# Altium integrated library Renesas Logic.IntLib: 1013 symbols (part 4 of 27)
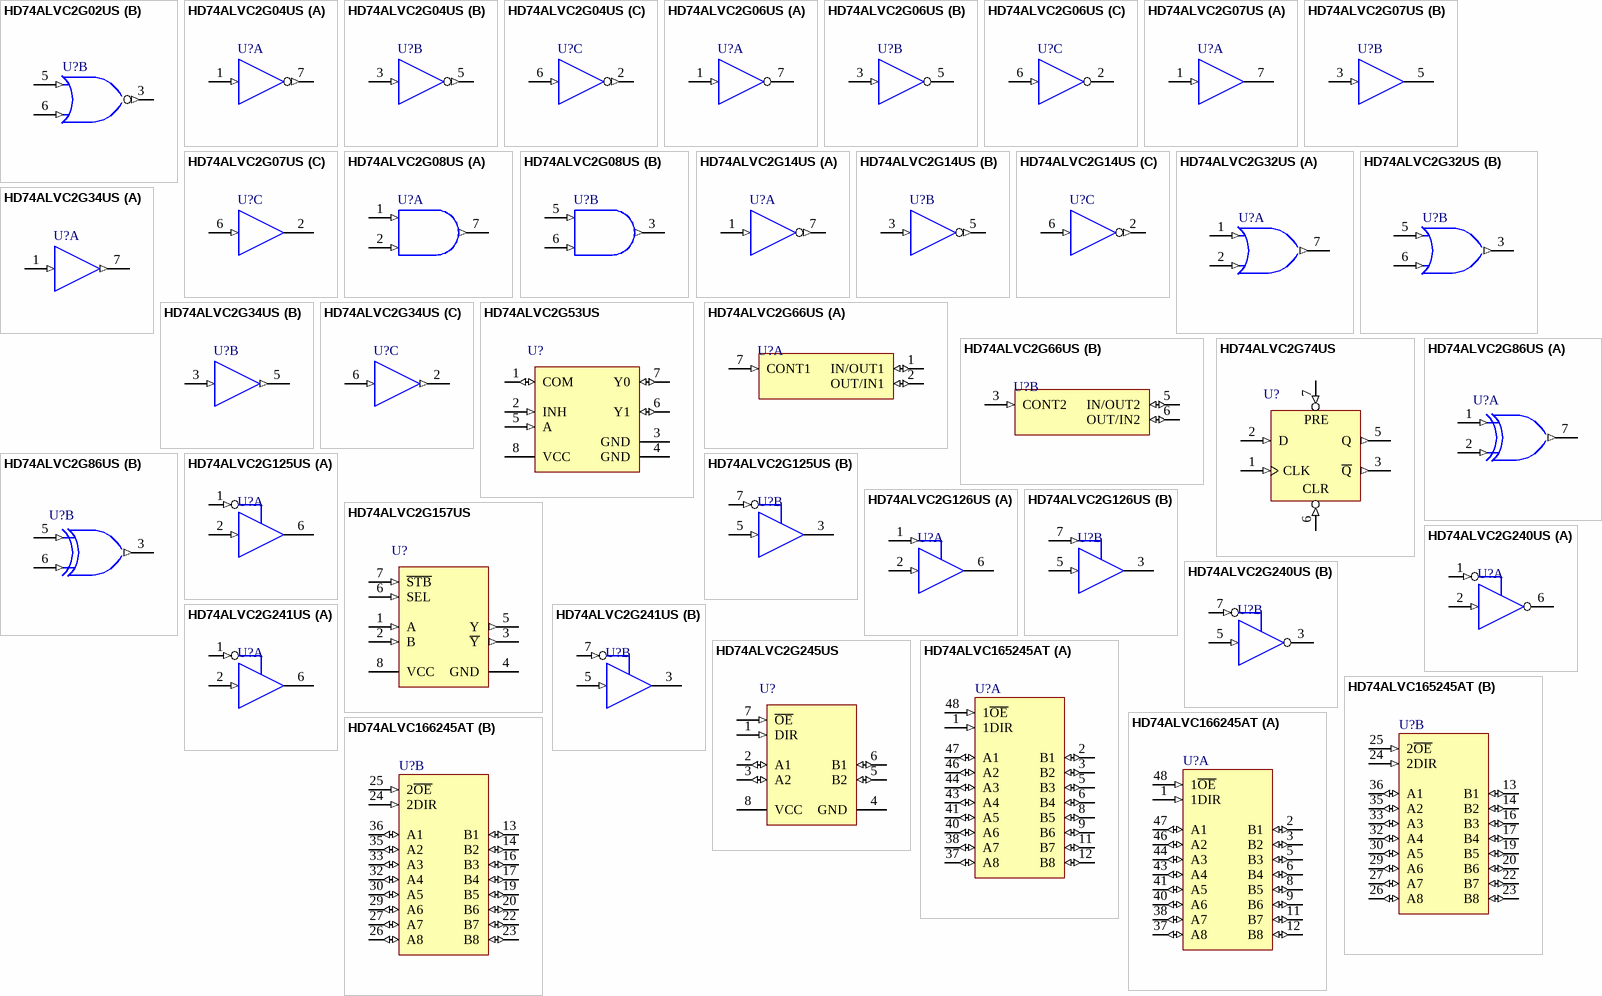
[diagram p56: symbols HD74ALVC2G02US to HD74ALVC166245AT]

## HD74ALVC2G74US
designator U?
Single D-Type Flip Flops with Preset and Clear; Published: 10-Feb-2010; DatasheetVersion: Rev.3.00, Dec-2003; PackageVersion: Sep-2005; PackageReference: PVSP0008KA-A; Publisher: Altium Limited; PackageDescription: 8-Pin Plastic Thin Shrink Small Outline Package 0.5 mm Pitch; Code_JEITA: P-VSSOP8-2.3x2-0.50; ComponentLink1Description: Manufacturer Link; ComponentLink1URL: http://sg.renesas.com/fmwk.jsp?cnt=unilogic_alvc_root.jsp&fp=/products/standard_ic/general_purpose_logic/uni_logic/unilogic_alvc/; ComponentLink2Description: Datasheet; ComponentLink2URL: http://documentation.renesas.com/eng/products/logic/rej03d0169_hd74alvc2g74.pdf; ComponentLink3Description: Packaging Specification; ComponentLink3URL: http://sg.renesas.com/media/products/common_info/package/pdf/ic/code/pvsp0008ka_a.pdf
footprint PVSP0008KA-A_N (TSSOP, 8-Leads, Body 2x2.3mm, Pitch 0.5mm, IPC Medium Density)
footprint PVSP0008KA-A_L (TSSOP, 8-Leads, Body 2x2.3mm, Pitch 0.5mm, IPC High Density)
footprint PVSP0008KA-A_M (TSSOP, 8-Leads, Body 2x2.3mm, Pitch 0.5mm, IPC Low Density)
pins: 1 CLK (in), 2 D (in), 3 ~{Q} (out), 4 GND (power) hidden, 5 Q (out), 6 ~{CLR} (in), 7 ~{PRE} (in), 8 VCC (power) hidden
text: PRE; CLR

## HD74ALVC2G86US
designator U?
Dual 2-Input Exclusive-OR Gates; Published: 10-Feb-2010; DatasheetVersion: Rev.3.00, Dec-2003; PackageVersion: Sep-2005; PackageReference: PVSP0008KA-A; Publisher: Altium Limited; PackageDescription: 8-Pin Plastic Thin Shrink Small Outline Package 0.5 mm Pitch; Code_JEITA: P-VSSOP8-2.3x2-0.50; ComponentLink1Description: Manufacturer Link; ComponentLink1URL: http://sg.renesas.com/fmwk.jsp?cnt=unilogic_alvc_root.jsp&fp=/products/standard_ic/general_purpose_logic/uni_logic/unilogic_alvc/; ComponentLink2Description: Datasheet; ComponentLink2URL: http://documentation.renesas.com/eng/products/logic/rej03d0170_hd74alvc2g86.pdf; ComponentLink3Description: Packaging Specification; ComponentLink3URL: http://sg.renesas.com/media/products/common_info/package/pdf/ic/code/pvsp0008ka_a.pdf
footprint PVSP0008KA-A_N (TSSOP, 8-Leads, Body 2x2.3mm, Pitch 0.5mm, IPC Medium Density)
footprint PVSP0008KA-A_L (TSSOP, 8-Leads, Body 2x2.3mm, Pitch 0.5mm, IPC High Density)
footprint PVSP0008KA-A_M (TSSOP, 8-Leads, Body 2x2.3mm, Pitch 0.5mm, IPC Low Density)
pins on every part: 4 GND (power) hidden, 8 VCC (power) hidden
part A pins: 1 1A (in), 2 1B (in), 7 1Y (out)
part B pins: 3 2Y (out), 5 2A (in), 6 2B (in)

## HD74ALVC2G125US
designator U?
Dual Bus Buffer with 3-State Output; Published: 10-Feb-2010; DatasheetVersion: Rev.2.00, Dec-2003; PackageVersion: Sep-2005; PackageReference: PVSP0008KA-A; Publisher: Altium Limited; PackageDescription: 8-Pin Plastic Thin Shrink Small Outline Package 0.5 mm Pitch; Code_JEITA: P-VSSOP8-2.3x2-0.50; ComponentLink1Description: Manufacturer Link; ComponentLink1URL: http://sg.renesas.com/fmwk.jsp?cnt=unilogic_alvc_root.jsp&fp=/products/standard_ic/general_purpose_logic/uni_logic/unilogic_alvc/; ComponentLink2Description: Datasheet; ComponentLink2URL: http://documentation.renesas.com/eng/products/logic/rej03d0171_hd74alvc2g125.pdf; ComponentLink3Description: Packaging Specification; ComponentLink3URL: http://sg.renesas.com/media/products/common_info/package/pdf/ic/code/pvsp0008ka_a.pdf
footprint PVSP0008KA-A_N (TSSOP, 8-Leads, Body 2x2.3mm, Pitch 0.5mm, IPC Medium Density)
footprint PVSP0008KA-A_L (TSSOP, 8-Leads, Body 2x2.3mm, Pitch 0.5mm, IPC High Density)
footprint PVSP0008KA-A_M (TSSOP, 8-Leads, Body 2x2.3mm, Pitch 0.5mm, IPC Low Density)
pins on every part: 4 GND (power) hidden, 8 VCC (power) hidden
part A pins: 1 ~{OE}1 (in), 2 A1 (in), 6 Y1 (hiz)
part B pins: 3 Y2 (hiz), 5 A2 (in), 7 ~{OE}2 (in)

## HD74ALVC2G126US
designator U?
Dual Bus Buffer with 3-State Output; Published: 10-Feb-2010; DatasheetVersion: Rev.2.00, Dec-2003; PackageVersion: Sep-2005; PackageReference: PVSP0008KA-A; Publisher: Altium Limited; PackageDescription: 8-Pin Plastic Thin Shrink Small Outline Package 0.5 mm Pitch; Code_JEITA: P-VSSOP8-2.3x2-0.50; ComponentLink1Description: Manufacturer Link; ComponentLink1URL: http://sg.renesas.com/fmwk.jsp?cnt=unilogic_alvc_root.jsp&fp=/products/standard_ic/general_purpose_logic/uni_logic/unilogic_alvc/; ComponentLink2Description: Datasheet; ComponentLink2URL: http://documentation.renesas.com/eng/products/logic/rej03d0172_hd74alvc2g126.pdf; ComponentLink3Description: Packaging Specification; ComponentLink3URL: http://sg.renesas.com/media/products/common_info/package/pdf/ic/code/pvsp0008ka_a.pdf
footprint PVSP0008KA-A_N (TSSOP, 8-Leads, Body 2x2.3mm, Pitch 0.5mm, IPC Medium Density)
footprint PVSP0008KA-A_L (TSSOP, 8-Leads, Body 2x2.3mm, Pitch 0.5mm, IPC High Density)
footprint PVSP0008KA-A_M (TSSOP, 8-Leads, Body 2x2.3mm, Pitch 0.5mm, IPC Low Density)
pins on every part: 4 GND (power) hidden, 8 VCC (power) hidden
part A pins: 1 OE1 (in), 2 A1 (in), 6 Y1 (hiz)
part B pins: 3 Y2 (hiz), 5 A2 (in), 7 OE2 (in)

## HD74ALVC2G157US
designator U?
2-Channel Multiplexer; Published: 10-Feb-2010; DatasheetVersion: Rev.4.00, Dec-2003; PackageVersion: Sep-2005; PackageReference: PVSP0008KA-A; Publisher: Altium Limited; PackageDescription: 8-Pin Plastic Thin Shrink Small Outline Package 0.5 mm Pitch; Code_JEITA: P-VSSOP8-2.3x2-0.50; ComponentLink1Description: Manufacturer Link; ComponentLink1URL: http://sg.renesas.com/fmwk.jsp?cnt=unilogic_alvc_root.jsp&fp=/products/standard_ic/general_purpose_logic/uni_logic/unilogic_alvc/; ComponentLink2Description: Datasheet; ComponentLink2URL: http://documentation.renesas.com/eng/products/logic/rej03d0173_hd74alvc2g157.pdf; ComponentLink3Description: Packaging Specification; ComponentLink3URL: http://sg.renesas.com/media/products/common_info/package/pdf/ic/code/pvsp0008ka_a.pdf
footprint PVSP0008KA-A_N (TSSOP, 8-Leads, Body 2x2.3mm, Pitch 0.5mm, IPC Medium Density)
footprint PVSP0008KA-A_L (TSSOP, 8-Leads, Body 2x2.3mm, Pitch 0.5mm, IPC High Density)
footprint PVSP0008KA-A_M (TSSOP, 8-Leads, Body 2x2.3mm, Pitch 0.5mm, IPC Low Density)
pins: 1 A (in), 2 B (in), 3 ~{Y} (out), 4 GND (power), 5 Y (out), 6 SEL (in), 7 ~{STB} (in), 8 VCC (power)

## HD74ALVC2G240US
designator U?
Dual Bus Buffer Inverted with 3-State Output; Published: 10-Feb-2010; DatasheetVersion: Rev.3.00, Dec-2003; PackageVersion: Sep-2005; PackageReference: PVSP0008KA-A; Publisher: Altium Limited; PackageDescription: 8-Pin Plastic Thin Shrink Small Outline Package 0.5 mm Pitch; Code_JEITA: P-VSSOP8-2.3x2-0.50; ComponentLink1Description: Manufacturer Link; ComponentLink1URL: http://sg.renesas.com/fmwk.jsp?cnt=unilogic_alvc_root.jsp&fp=/products/standard_ic/general_purpose_logic/uni_logic/unilogic_alvc/; ComponentLink2Description: Datasheet; ComponentLink2URL: http://documentation.renesas.com/eng/products/logic/rej03d0174_hd74alvc2g240.pdf; ComponentLink3Description: Packaging Specification; ComponentLink3URL: http://sg.renesas.com/media/products/common_info/package/pdf/ic/code/pvsp0008ka_a.pdf
footprint PVSP0008KA-A_N (TSSOP, 8-Leads, Body 2x2.3mm, Pitch 0.5mm, IPC Medium Density)
footprint PVSP0008KA-A_L (TSSOP, 8-Leads, Body 2x2.3mm, Pitch 0.5mm, IPC High Density)
footprint PVSP0008KA-A_M (TSSOP, 8-Leads, Body 2x2.3mm, Pitch 0.5mm, IPC Low Density)
pins on every part: 4 GND (power) hidden, 8 VCC (power) hidden
part A pins: 1 ~{OE}1 (in), 2 A1 (in), 6 ~{Y}1 (hiz)
part B pins: 3 ~{Y}2 (hiz), 5 A2 (in), 7 ~{OE}2 (in)

## HD74ALVC2G241US
designator U?
Dual Bus Buffer Non-Inverted with 3-State Output; Published: 10-Feb-2010; DatasheetVersion: Rev.2.00, Dec-2003; PackageVersion: Sep-2005; PackageReference: PVSP0008KA-A; Publisher: Altium Limited; PackageDescription: 8-Pin Plastic Thin Shrink Small Outline Package 0.5 mm Pitch; Code_JEITA: P-VSSOP8-2.3x2-0.50; ComponentLink1Description: Manufacturer Link; ComponentLink1URL: http://sg.renesas.com/fmwk.jsp?cnt=unilogic_alvc_root.jsp&fp=/products/standard_ic/general_purpose_logic/uni_logic/unilogic_alvc/; ComponentLink2Description: Datasheet; ComponentLink2URL: http://documentation.renesas.com/eng/products/logic/rej03d0175_hd74alvc2g241.pdf; ComponentLink3Description: Packaging Specification; ComponentLink3URL: http://sg.renesas.com/media/products/common_info/package/pdf/ic/code/pvsp0008ka_a.pdf
footprint PVSP0008KA-A_N (TSSOP, 8-Leads, Body 2x2.3mm, Pitch 0.5mm, IPC Medium Density)
footprint PVSP0008KA-A_L (TSSOP, 8-Leads, Body 2x2.3mm, Pitch 0.5mm, IPC High Density)
footprint PVSP0008KA-A_M (TSSOP, 8-Leads, Body 2x2.3mm, Pitch 0.5mm, IPC Low Density)
pins on every part: 4 GND (power) hidden, 8 VCC (power) hidden
part A pins: 1 ~{OE}1 (in), 2 A1 (in), 6 Y1 (hiz)
part B pins: 3 Y2 (hiz), 5 A2 (in), 7 ~{OE}2 (in)

## HD74ALVC2G245US
designator U?
Dual Bus Transceivers with 3-State Output; Published: 10-Feb-2010; DatasheetVersion: Rev.4.00, Dec-2003; PackageVersion: Sep-2005; PackageReference: PVSP0008KA-A; Publisher: Altium Limited; PackageDescription: 8-Pin Plastic Thin Shrink Small Outline Package 0.5 mm Pitch; Code_JEITA: P-VSSOP8-2.3x2-0.50; ComponentLink1Description: Manufacturer Link; ComponentLink1URL: http://sg.renesas.com/fmwk.jsp?cnt=unilogic_alvc_root.jsp&fp=/products/standard_ic/general_purpose_logic/uni_logic/unilogic_alvc/; ComponentLink2Description: Datasheet; ComponentLink2URL: http://documentation.renesas.com/eng/products/logic/rej03d0176_hd74alvc2g245.pdf; ComponentLink3Description: Packaging Specification; ComponentLink3URL: http://sg.renesas.com/media/products/common_info/package/pdf/ic/code/pvsp0008ka_a.pdf
footprint PVSP0008KA-A_N (TSSOP, 8-Leads, Body 2x2.3mm, Pitch 0.5mm, IPC Medium Density)
footprint PVSP0008KA-A_L (TSSOP, 8-Leads, Body 2x2.3mm, Pitch 0.5mm, IPC High Density)
footprint PVSP0008KA-A_M (TSSOP, 8-Leads, Body 2x2.3mm, Pitch 0.5mm, IPC Low Density)
pins: 1 DIR (in), 2 A1 (io), 3 A2 (io), 4 GND (power), 5 B2 (io), 6 B1 (io), 7 ~{OE} (in), 8 VCC (power)

## HD74ALVC165245AT
designator U?
16-bit Dual-Supply Bus Transceiver with 3-State Outputs; Published: 10-Feb-2010; DatasheetVersion: Rev.2.01, Apr-2005; PackageVersion: Sep-2005; PackageReference: PTSP0048KA-A; Publisher: Altium Limited; PackageDescription: 48-Pin Thin Shrink Small Outline Package, 12.5 x 6.1 mm Body, 0.5 mm Pitch; Code_JEITA: P-TSSOP48-6.1x12.5-0.50; ComponentLink1Description: Manufacturer Link; ComponentLink1URL: http://sg.renesas.com/fmwk.jsp?cnt=level_shifter_root.jsp&fp=/products/standard_ic/general_purpose_logic/multi_purpose_assp_logic/level_shifter/; ComponentLink2Description: Datasheet; ComponentLink2URL: http://documentation.renesas.com/eng/products/logic/rej03d0157_hd74alvc165245a.pdf; ComponentLink3Description: Packaging Specification; ComponentLink3URL: http://sg.renesas.com/media/products/common_info/package/pdf/ic/code/ptsp0048ka_a.pdf
footprint PTSP0048KA-A_N (TSSOP, 48-Leads, Body 12.5x6.1mm, Pitch 0.5mm, IPC Medium Density)
footprint PTSP0048KA-A_L (TSSOP, 48-Leads, Body 12.5x6.1mm, Pitch 0.5mm, IPC High Density)
footprint PTSP0048KA-A_M (TSSOP, 48-Leads, Body 12.5x6.1mm, Pitch 0.5mm, IPC Low Density)
pins on every part: 4 GND (power) hidden to GND, 7 VCCB (power) hidden to VCC, 10 GND (power) hidden to GND, 15 GND (power) hidden to GND, 18 VCCB (power) hidden to VCC, 21 GND (power) hidden to GND, 28 GND (power) hidden to GND, 31 VCCA (power) hidden to VCC, 34 GND (power) hidden to GND, 39 GND (power) hidden to GND, 42 VCCA (power) hidden to VCC, 45 GND (power) hidden to GND
part A pins: 1 1DIR (in), 2 B1 (io), 3 B2 (io), 5 B3 (io), 6 B4 (io), 8 B5 (io), 9 B6 (io), 11 B7 (io), 12 B8 (io), 37 A8 (io), 38 A7 (io), 40 A6 (io), 41 A5 (io), 43 A4 (io), 44 A3 (io), 46 A2 (io), 47 A1 (io), 48 1~{OE} (in)
part B pins: 13 B1 (io), 14 B2 (io), 16 B3 (io), 17 B4 (io), 19 B5 (io), 20 B6 (io), 22 B7 (io), 23 B8 (io), 24 2DIR (in), 25 2~{OE} (in), 26 A8 (io), 27 A7 (io), 29 A6 (io), 30 A5 (io), 32 A4 (io), 33 A3 (io), 35 A2 (io), 36 A1 (io)

## HD74ALVC166245AT
designator U?
16-bit Dual-Supply Bus Transceiver with 3-State Outputs; Published: 10-Feb-2010; DatasheetVersion: Rev.2.01, Apr-2005; PackageVersion: Sep-2005; PackageReference: PTSP0048KA-A; Publisher: Altium Limited; PackageDescription: 48-Pin Thin Shrink Small Outline Package, 12.5 x 6.1 mm Body, 0.5 mm Pitch; Code_JEITA: P-TSSOP48-6.1x12.5-0.50; ComponentLink1Description: Manufacturer Link; ComponentLink1URL: http://sg.renesas.com/fmwk.jsp?cnt=level_shifter_root.jsp&fp=/products/standard_ic/general_purpose_logic/multi_purpose_assp_logic/level_shifter/; ComponentLink2Description: Datasheet; ComponentLink2URL: http://documentation.renesas.com/eng/products/logic/rej03d0158_hd74alvc166245a.pdf; ComponentLink3Description: Packaging Specification; ComponentLink3URL: http://sg.renesas.com/media/products/common_info/package/pdf/ic/code/ptsp0048ka_a.pdf
footprint PTSP0048KA-A_N (TSSOP, 48-Leads, Body 12.5x6.1mm, Pitch 0.5mm, IPC Medium Density)
footprint PTSP0048KA-A_L (TSSOP, 48-Leads, Body 12.5x6.1mm, Pitch 0.5mm, IPC High Density)
footprint PTSP0048KA-A_M (TSSOP, 48-Leads, Body 12.5x6.1mm, Pitch 0.5mm, IPC Low Density)
pins on every part: 4 GND (power) hidden to GND, 7 VCCB (power) hidden to VCC, 10 GND (power) hidden to GND, 15 GND (power) hidden to GND, 18 VCCB (power) hidden to VCC, 21 GND (power) hidden to GND, 28 GND (power) hidden to GND, 31 VCCA (power) hidden to VCC, 34 GND (power) hidden to GND, 39 GND (power) hidden to GND, 42 VCCA (power) hidden to VCC, 45 GND (power) hidden to GND
part A pins: 1 1DIR (in), 2 B1 (io), 3 B2 (io), 5 B3 (io), 6 B4 (io), 8 B5 (io), 9 B6 (io), 11 B7 (io), 12 B8 (io), 37 A8 (io), 38 A7 (io), 40 A6 (io), 41 A5 (io), 43 A4 (io), 44 A3 (io), 46 A2 (io), 47 A1 (io), 48 1~{OE} (in)
part B pins: 13 B1 (io), 14 B2 (io), 16 B3 (io), 17 B4 (io), 19 B5 (io), 20 B6 (io), 22 B7 (io), 23 B8 (io), 24 2DIR (in), 25 2~{OE} (in), 26 A8 (io), 27 A7 (io), 29 A6 (io), 30 A5 (io), 32 A4 (io), 33 A3 (io), 35 A2 (io), 36 A1 (io)

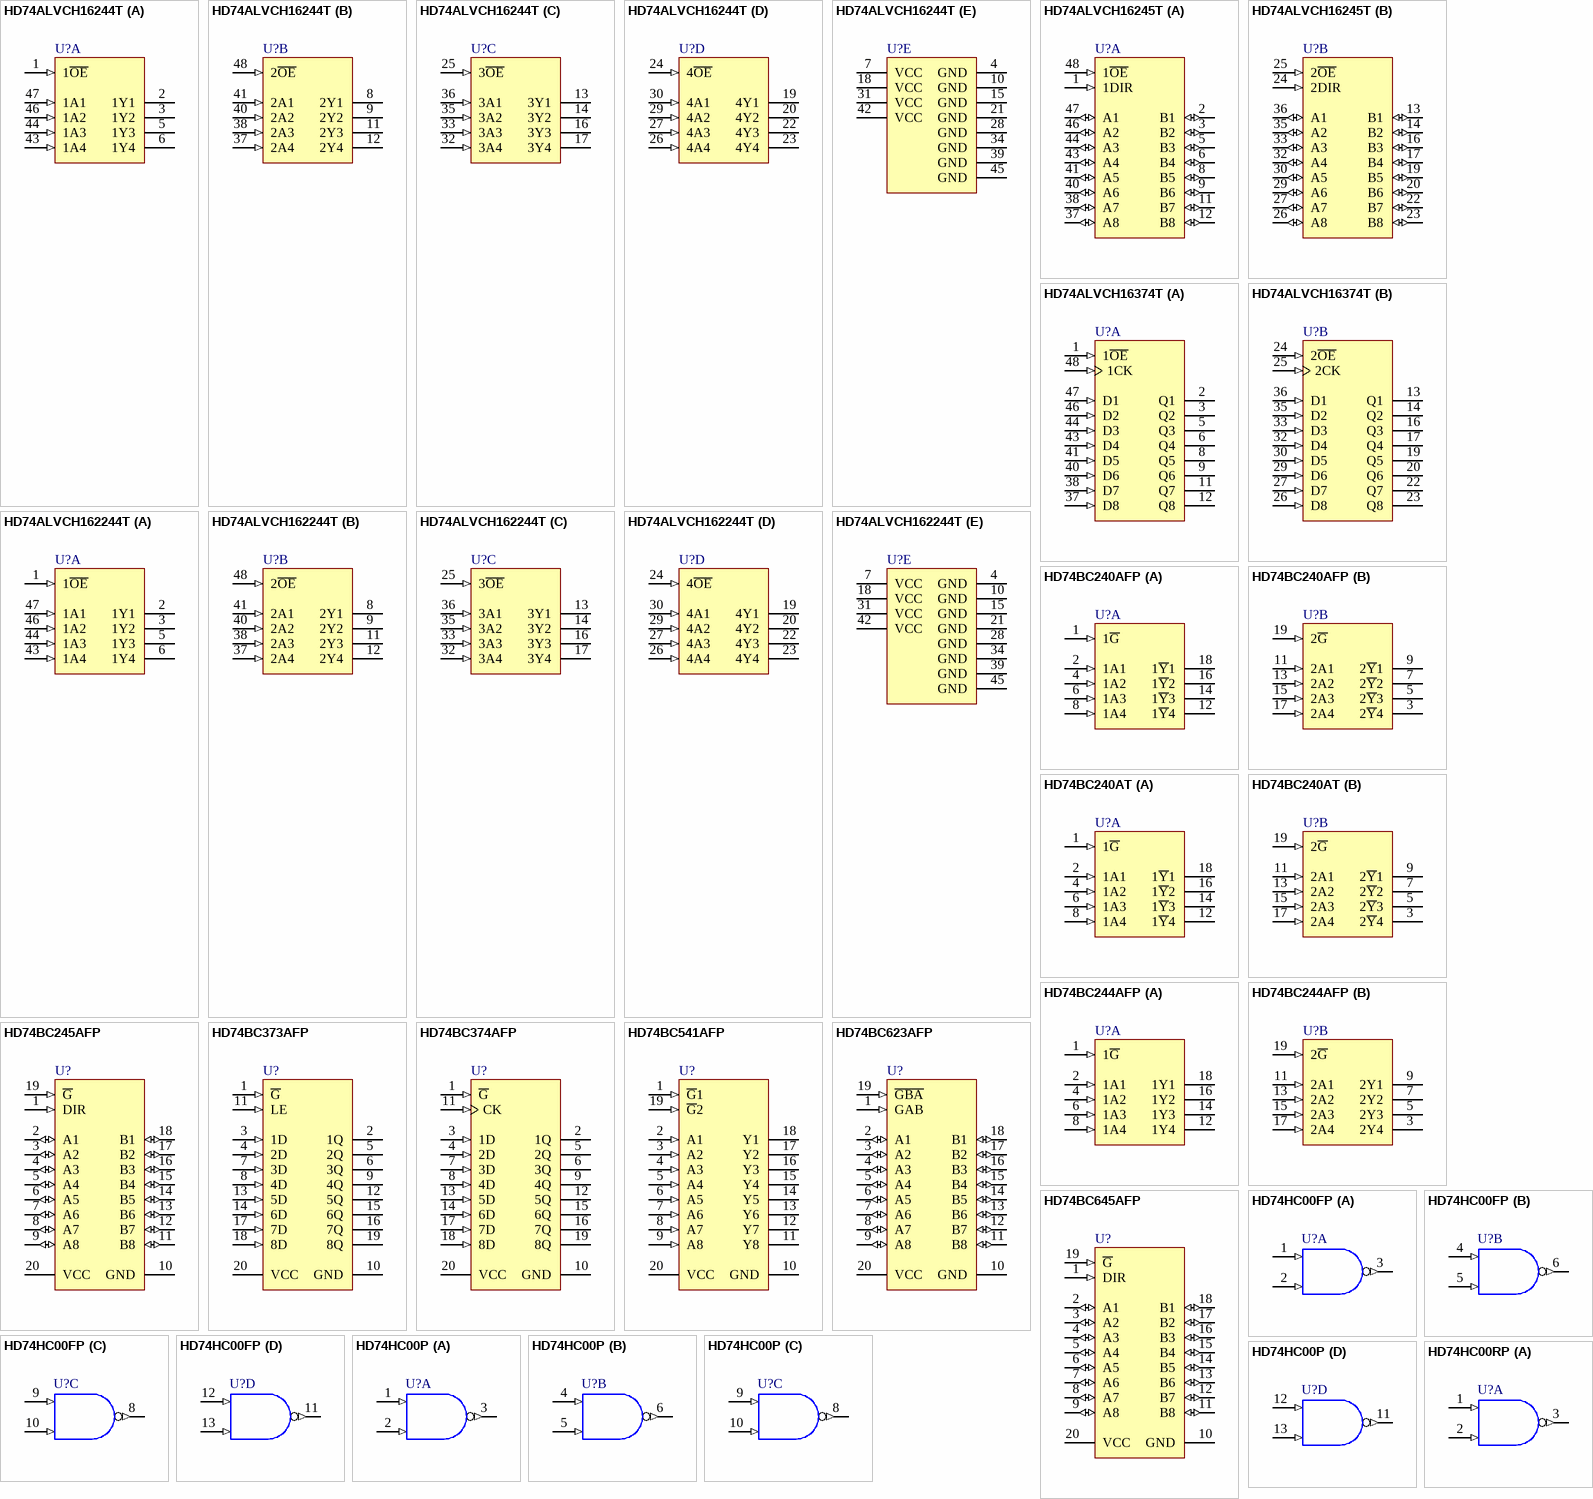
[diagram p7: symbols HD74ALVCH16244T to HD74HC00RP]

## HD74ALVCH16244T
designator U?
16-bit Buffers / Drivers with 3-State Outputs; Published: 10-Feb-2010; DatasheetVersion: Rev.3.00, Oct-2003; PackageVersion: Sep-2005; PackageReference: PTSP0048KA-A; Publisher: Altium Limited; PackageDescription: 48-Pin Thin Shrink Small Outline Package, 12.5 x 6.1 mm Body, 0.5 mm Pitch; Code_JEITA: P-TSSOP48-6.1x12.5-0.50; ComponentLink1Description: Manufacturer Link; ComponentLink1URL: http://sg.renesas.com/fmwk.jsp?cnt=hd74alvc_root.jsp&fp=/products/standard_ic/general_purpose_logic/low_voltage_logic/hd74alvc/; ComponentLink2Description: Datasheet; ComponentLink2URL: http://documentation.renesas.com/eng/products/logic/rej03d0052_hd74alvch162244.pdf; ComponentLink3Description: Packaging Specification; ComponentLink3URL: http://sg.renesas.com/media/products/common_info/package/pdf/ic/code/ptsp0048ka_a.pdf
footprint PTSP0048KA-A_N (TSSOP, 48-Leads, Body 12.5x6.1mm, Pitch 0.5mm, IPC Medium Density)
footprint PTSP0048KA-A_L (TSSOP, 48-Leads, Body 12.5x6.1mm, Pitch 0.5mm, IPC High Density)
footprint PTSP0048KA-A_M (TSSOP, 48-Leads, Body 12.5x6.1mm, Pitch 0.5mm, IPC Low Density)
part A pins: 1 1~{OE} (in), 2 1Y1 (hiz), 3 1Y2 (hiz), 5 1Y3 (hiz), 6 1Y4 (hiz), 43 1A4 (in), 44 1A3 (in), 46 1A2 (in), 47 1A1 (in)
part B pins: 8 2Y1 (hiz), 9 2Y2 (hiz), 11 2Y3 (hiz), 12 2Y4 (hiz), 37 2A4 (in), 38 2A3 (in), 40 2A2 (in), 41 2A1 (in), 48 2~{OE} (in)
part C pins: 13 3Y1 (hiz), 14 3Y2 (hiz), 16 3Y3 (hiz), 17 3Y4 (hiz), 25 3~{OE} (in), 32 3A4 (in), 33 3A3 (in), 35 3A2 (in), 36 3A1 (in)
part D pins: 19 4Y1 (hiz), 20 4Y2 (hiz), 22 4Y3 (hiz), 23 4Y4 (hiz), 24 4~{OE} (in), 26 4A4 (in), 27 4A3 (in), 29 4A2 (in), 30 4A1 (in)
part E pins: 4 GND (power), 7 VCC (power), 10 GND (power), 15 GND (power), 18 VCC (power), 21 GND (power), 28 GND (power), 31 VCC (power), 34 GND (power), 39 GND (power), 42 VCC (power), 45 GND (power)

## HD74ALVCH16245T
designator U?
16-bit Bus Transceiver with 3-State Outputs; Published: 10-Feb-2010; DatasheetVersion: Rev.5.00, Oct-2003; PackageVersion: Sep-2005; PackageReference: PTSP0048KA-A; Publisher: Altium Limited; PackageDescription: 48-Pin Thin Shrink Small Outline Package, 12.5 x 6.1 mm Body, 0.5 mm Pitch; Code_JEITA: P-TSSOP48-6.1x12.5-0.50; ComponentLink1Description: Manufacturer Link; ComponentLink1URL: http://sg.renesas.com/fmwk.jsp?cnt=hd74alvc_root.jsp&fp=/products/standard_ic/general_purpose_logic/low_voltage_logic/hd74alvc/; ComponentLink2Description: Datasheet; ComponentLink2URL: http://documentation.renesas.com/eng/products/logic/rej03d0049_hd74alvch16245.pdf; ComponentLink3Description: Packaging Specification; ComponentLink3URL: http://sg.renesas.com/media/products/common_info/package/pdf/ic/code/ptsp0048ka_a.pdf
footprint PTSP0048KA-A_N (TSSOP, 48-Leads, Body 12.5x6.1mm, Pitch 0.5mm, IPC Medium Density)
footprint PTSP0048KA-A_L (TSSOP, 48-Leads, Body 12.5x6.1mm, Pitch 0.5mm, IPC High Density)
footprint PTSP0048KA-A_M (TSSOP, 48-Leads, Body 12.5x6.1mm, Pitch 0.5mm, IPC Low Density)
pins on every part: 4 GND (power) hidden to GND, 7 VCC (power) hidden to VCC, 10 GND (power) hidden to GND, 15 GND (power) hidden to GND, 18 VCC (power) hidden to VCC, 21 GND (power) hidden to GND, 28 GND (power) hidden to GND, 31 VCC (power) hidden to VCC, 34 GND (power) hidden to GND, 39 GND (power) hidden to GND, 42 VCC (power) hidden to VCC, 45 GND (power) hidden to GND
part A pins: 1 1DIR (in), 2 B1 (io), 3 B2 (io), 5 B3 (io), 6 B4 (io), 8 B5 (io), 9 B6 (io), 11 B7 (io), 12 B8 (io), 37 A8 (io), 38 A7 (io), 40 A6 (io), 41 A5 (io), 43 A4 (io), 44 A3 (io), 46 A2 (io), 47 A1 (io), 48 1~{OE} (in)
part B pins: 13 B1 (io), 14 B2 (io), 16 B3 (io), 17 B4 (io), 19 B5 (io), 20 B6 (io), 22 B7 (io), 23 B8 (io), 24 2DIR (in), 25 2~{OE} (in), 26 A8 (io), 27 A7 (io), 29 A6 (io), 30 A5 (io), 32 A4 (io), 33 A3 (io), 35 A2 (io), 36 A1 (io)

## HD74ALVCH16374T
designator U?
16-bit Edge-Triggered D-Type Flip-Flops with 3-State Outputs; Published: 10-Feb-2010; DatasheetVersion: Rev.5.00, Jan-2005; PackageVersion: Sep-2005; PackageReference: PTSP0048KA-A; Publisher: Altium Limited; PackageDescription: 48-Pin Thin Shrink Small Outline Package, 12.5 x 6.1 mm Body, 0.5 mm Pitch; Code_JEITA: P-TSSOP48-6.1x12.5-0.50; ComponentLink1Description: Manufacturer Link; ComponentLink1URL: http://sg.renesas.com/fmwk.jsp?cnt=hd74alvc_root.jsp&fp=/products/standard_ic/general_purpose_logic/low_voltage_logic/hd74alvc/; ComponentLink2Description: Datasheet; ComponentLink2URL: http://documentation.renesas.com/eng/products/logic/rej03d0037_hd74alvch16374.pdf; ComponentLink3Description: Packaging Specification; ComponentLink3URL: http://sg.renesas.com/media/products/common_info/package/pdf/ic/code/ptsp0048ka_a.pdf
footprint PTSP0048KA-A_N (TSSOP, 48-Leads, Body 12.5x6.1mm, Pitch 0.5mm, IPC Medium Density)
footprint PTSP0048KA-A_L (TSSOP, 48-Leads, Body 12.5x6.1mm, Pitch 0.5mm, IPC High Density)
footprint PTSP0048KA-A_M (TSSOP, 48-Leads, Body 12.5x6.1mm, Pitch 0.5mm, IPC Low Density)
pins on every part: 4 GND (power) hidden, 7 VCC (power) hidden, 10 GND (power) hidden, 15 GND (power) hidden, 18 VCC (power) hidden, 21 GND (power) hidden, 28 GND (power) hidden, 31 VCC (power) hidden, 34 GND (power) hidden, 39 GND (power) hidden, 42 VCC (power) hidden, 45 GND (power) hidden
part A pins: 1 1~{OE} (in), 2 Q1 (hiz), 3 Q2 (hiz), 5 Q3 (hiz), 6 Q4 (hiz), 8 Q5 (hiz), 9 Q6 (hiz), 11 Q7 (hiz), 12 Q8 (hiz), 37 D8 (in), 38 D7 (in), 40 D6 (in), 41 D5 (in), 43 D4 (in), 44 D3 (in), 46 D2 (in), 47 D1 (in), 48 1CK (in)
part B pins: 13 Q1 (hiz), 14 Q2 (hiz), 16 Q3 (hiz), 17 Q4 (hiz), 19 Q5 (hiz), 20 Q6 (hiz), 22 Q7 (hiz), 23 Q8 (hiz), 24 2~{OE} (in), 25 2CK (in), 26 D8 (in), 27 D7 (in), 29 D6 (in), 30 D5 (in), 32 D4 (in), 33 D3 (in), 35 D2 (in), 36 D1 (in)

## HD74ALVCH162244T
designator U?
16-bit Buffers / Drivers with 3-State Outputs; Published: 10-Feb-2010; DatasheetVersion: Rev.3.00, Oct-2003; PackageVersion: Sep-2005; PackageReference: PTSP0048KA-A; Publisher: Altium Limited; PackageDescription: 48-Pin Thin Shrink Small Outline Package, 12.5 x 6.1 mm Body, 0.5 mm Pitch; Code_JEITA: P-TSSOP48-6.1x12.5-0.50; ComponentLink1Description: Manufacturer Link; ComponentLink1URL: http://sg.renesas.com/fmwk.jsp?cnt=hd74alvc_root.jsp&fp=/products/standard_ic/general_purpose_logic/low_voltage_logic/hd74alvc/; ComponentLink2Description: Datasheet; ComponentLink2URL: http://documentation.renesas.com/eng/products/logic/rej03d0052_hd74alvch162244.pdf; ComponentLink3Description: Packaging Specification; ComponentLink3URL: http://sg.renesas.com/media/products/common_info/package/pdf/ic/code/ptsp0048ka_a.pdf
footprint PTSP0048KA-A_N (TSSOP, 48-Leads, Body 12.5x6.1mm, Pitch 0.5mm, IPC Medium Density)
footprint PTSP0048KA-A_L (TSSOP, 48-Leads, Body 12.5x6.1mm, Pitch 0.5mm, IPC High Density)
footprint PTSP0048KA-A_M (TSSOP, 48-Leads, Body 12.5x6.1mm, Pitch 0.5mm, IPC Low Density)
part A pins: 1 1~{OE} (in), 2 1Y1 (hiz), 3 1Y2 (hiz), 5 1Y3 (hiz), 6 1Y4 (hiz), 43 1A4 (in), 44 1A3 (in), 46 1A2 (in), 47 1A1 (in)
part B pins: 8 2Y1 (hiz), 9 2Y2 (hiz), 11 2Y3 (hiz), 12 2Y4 (hiz), 37 2A4 (in), 38 2A3 (in), 40 2A2 (in), 41 2A1 (in), 48 2~{OE} (in)
part C pins: 13 3Y1 (hiz), 14 3Y2 (hiz), 16 3Y3 (hiz), 17 3Y4 (hiz), 25 3~{OE} (in), 32 3A4 (in), 33 3A3 (in), 35 3A2 (in), 36 3A1 (in)
part D pins: 19 4Y1 (hiz), 20 4Y2 (hiz), 22 4Y3 (hiz), 23 4Y4 (hiz), 24 4~{OE} (in), 26 4A4 (in), 27 4A3 (in), 29 4A2 (in), 30 4A1 (in)
part E pins: 4 GND (power), 7 VCC (power), 10 GND (power), 15 GND (power), 18 VCC (power), 21 GND (power), 28 GND (power), 31 VCC (power), 34 GND (power), 39 GND (power), 42 VCC (power), 45 GND (power)

## HD74BC240AFP
designator U?
Octal Buffers / Line Drivers with 3-State Outputs; Published: 10-Feb-2010; DatasheetVersion: Rev.3.00, Jul-2004; PackageVersion: Sep-2005; PackageReference: PRSP0020DD-B; Publisher: Altium Limited; PackageDescription: 20-Pin Plastic Small Outline Package, 12.6 x 5.5 x 1.8 mm Body, 1.27 mm Pitch; Code_JEITA: P-SOP20-5.5x12.6-1.27; ComponentLink1Description: Manufacturer Link; ComponentLink1URL: http://sg.renesas.com/fmwk.jsp?cnt=hd74bc_root.jsp&fp=/products/standard_ic/general_purpose_logic/5v_standard_logic/hd74bc/; ComponentLink2Description: Datasheet; ComponentLink2URL: http://documentation.renesas.com/eng/products/logic/rej03d0280_hd74bc240a.pdf; ComponentLink3Description: Packaging Specification; ComponentLink3URL: http://sg.renesas.com/media/products/common_info/package/pdf/ic/code/prsp0020dd_b.pdf
footprint PRSP0020DD-B_N (SOP, 20-Leads, Body 12.6x5.3mm, Pitch 1.27mm, IPC Medium Density)
footprint PRSP0020DD-B_L (SOP, 20-Leads, Body 12.6x5.3mm, Pitch 1.27mm, IPC High Density)
footprint PRSP0020DD-B_M (SOP, 20-Leads, Body 12.6x5.3mm, Pitch 1.27mm, IPC Low Density)
pins on every part: 10 GND (power) hidden, 20 VCC (power) hidden
part A pins: 1 1~{G} (in), 2 1A1 (in), 4 1A2 (in), 6 1A3 (in), 8 1A4 (in), 12 1~{Y}4 (hiz), 14 1~{Y}3 (hiz), 16 1~{Y}2 (hiz), 18 1~{Y}1 (hiz)
part B pins: 3 2~{Y}4 (hiz), 5 2~{Y}3 (hiz), 7 2~{Y}2 (hiz), 9 2~{Y}1 (hiz), 11 2A1 (in), 13 2A2 (in), 15 2A3 (in), 17 2A4 (in), 19 2~{G} (in)

## HD74BC240AT
designator U?
Octal Buffers / Line Drivers with 3-State Outputs; Published: 10-Feb-2010; DatasheetVersion: Rev.3.00, Jul-2004; PackageVersion: Sep-2005; PackageReference: PTSP0020JB-A; Publisher: Altium Limited; PackageDescription: 20-Pin Plastic Thin Small Outline Package, 6.5 x 4.4 mm Body, 0.65 mm Pitch; Code_JEITA: P-TSSOP20-4.4x6.5-0.65; ComponentLink1Description: Manufacturer Link; ComponentLink1URL: http://sg.renesas.com/fmwk.jsp?cnt=hd74bc_root.jsp&fp=/products/standard_ic/general_purpose_logic/5v_standard_logic/hd74bc/; ComponentLink2Description: Datasheet; ComponentLink2URL: http://documentation.renesas.com/eng/products/logic/rej03d0280_hd74bc240a.pdf; ComponentLink3Description: Packaging Specification; ComponentLink3URL: http://sg.renesas.com/media/products/common_info/package/pdf/ic/code/ptsp0020jb_a.pdf
footprint PTSP0020JB-A_N (TSOP, 20-Leads, Body 6.5x4.4mm, Pitch 0.65mm, IPC Medium Density)
footprint PTSP0020JB-A_L (TSOP, 20-Leads, Body 6.5x4.4mm, Pitch 0.65mm, IPC High Density)
footprint PTSP0020JB-A_M (TSOP, 20-Leads, Body 6.5x4.4mm, Pitch 0.65mm, IPC Low Density)
pins on every part: 10 GND (power) hidden, 20 VCC (power) hidden
part A pins: 1 1~{G} (in), 2 1A1 (in), 4 1A2 (in), 6 1A3 (in), 8 1A4 (in), 12 1~{Y}4 (hiz), 14 1~{Y}3 (hiz), 16 1~{Y}2 (hiz), 18 1~{Y}1 (hiz)
part B pins: 3 2~{Y}4 (hiz), 5 2~{Y}3 (hiz), 7 2~{Y}2 (hiz), 9 2~{Y}1 (hiz), 11 2A1 (in), 13 2A2 (in), 15 2A3 (in), 17 2A4 (in), 19 2~{G} (in)

## HD74BC244AFP
designator U?
Octal Buffers / Line Drivers with 3-State Outputs; Published: 10-Feb-2010; DatasheetVersion: Rev.3.00, Jul-2004; PackageVersion: Sep-2005; PackageReference: PRSP0020DD-B; Publisher: Altium Limited; PackageDescription: 20-Pin Plastic Small Outline Package, 12.6 x 5.5 x 1.8 mm Body, 1.27 mm Pitch; Code_JEITA: P-SOP20-5.5x12.6-1.27; ComponentLink1Description: Manufacturer Link; ComponentLink1URL: http://sg.renesas.com/fmwk.jsp?cnt=hd74bc_root.jsp&fp=/products/standard_ic/general_purpose_logic/5v_standard_logic/hd74bc/; ComponentLink2Description: Datasheet; ComponentLink2URL: http://documentation.renesas.com/eng/products/logic/rej03d0281_hd74bc244a.pdf; ComponentLink3Description: Packaging Specification; ComponentLink3URL: http://sg.renesas.com/media/products/common_info/package/pdf/ic/code/prsp0020dd_b.pdf
footprint PRSP0020DD-B_N (SOP, 20-Leads, Body 12.6x5.3mm, Pitch 1.27mm, IPC Medium Density)
footprint PRSP0020DD-B_L (SOP, 20-Leads, Body 12.6x5.3mm, Pitch 1.27mm, IPC High Density)
footprint PRSP0020DD-B_M (SOP, 20-Leads, Body 12.6x5.3mm, Pitch 1.27mm, IPC Low Density)
pins on every part: 10 GND (power) hidden, 20 VCC (power) hidden
part A pins: 1 1~{G} (in), 2 1A1 (in), 4 1A2 (in), 6 1A3 (in), 8 1A4 (in), 12 1Y4 (hiz), 14 1Y3 (hiz), 16 1Y2 (hiz), 18 1Y1 (hiz)
part B pins: 3 2Y4 (hiz), 5 2Y3 (hiz), 7 2Y2 (hiz), 9 2Y1 (hiz), 11 2A1 (in), 13 2A2 (in), 15 2A3 (in), 17 2A4 (in), 19 2~{G} (in)

## HD74BC245AFP
designator U?
Octal Bus Transceivers with 3-State Outputs; Published: 10-Feb-2010; DatasheetVersion: Rev.4.00, Jul-2004; PackageVersion: Sep-2005; PackageReference: PRSP0020DD-B; Publisher: Altium Limited; PackageDescription: 20-Pin Plastic Small Outline Package, 12.6 x 5.5 x 1.8 mm Body, 1.27 mm Pitch; Code_JEITA: P-SOP20-5.5x12.6-1.27; ComponentLink1Description: Manufacturer Link; ComponentLink1URL: http://sg.renesas.com/fmwk.jsp?cnt=hd74bc_root.jsp&fp=/products/standard_ic/general_purpose_logic/5v_standard_logic/hd74bc/; ComponentLink2Description: Datasheet; ComponentLink2URL: http://documentation.renesas.com/eng/products/logic/rej03d0282_hd74bc245a.pdf; ComponentLink3Description: Packaging Specification; ComponentLink3URL: http://sg.renesas.com/media/products/common_info/package/pdf/ic/code/prsp0020dd_b.pdf
footprint PRSP0020DD-B_N (SOP, 20-Leads, Body 12.6x5.3mm, Pitch 1.27mm, IPC Medium Density)
footprint PRSP0020DD-B_L (SOP, 20-Leads, Body 12.6x5.3mm, Pitch 1.27mm, IPC High Density)
footprint PRSP0020DD-B_M (SOP, 20-Leads, Body 12.6x5.3mm, Pitch 1.27mm, IPC Low Density)
pins: 1 DIR (in), 2 A1 (io), 3 A2 (io), 4 A3 (io), 5 A4 (io), 6 A5 (io), 7 A6 (io), 8 A7 (io), 9 A8 (io), 10 GND (power), 11 B8 (io), 12 B7 (io), 13 B6 (io), 14 B5 (io), 15 B4 (io), 16 B3 (io), 17 B2 (io), 18 B1 (io), 19 ~{G} (in), 20 VCC (power)

## HD74BC373AFP
designator U?
Octal D-Type Transparent Latches with 3-State Outputs; Published: 10-Feb-2010; DatasheetVersion: Rev.3.00, Jul-2004; PackageVersion: Sep-2005; PackageReference: PRSP0020DD-B; Publisher: Altium Limited; PackageDescription: 20-Pin Plastic Small Outline Package, 12.6 x 5.5 x 1.8 mm Body, 1.27 mm Pitch; Code_JEITA: P-SOP20-5.5x12.6-1.27; ComponentLink1Description: Manufacturer Link; ComponentLink1URL: http://sg.renesas.com/fmwk.jsp?cnt=hd74bc_root.jsp&fp=/products/standard_ic/general_purpose_logic/5v_standard_logic/hd74bc/; ComponentLink2Description: Datasheet; ComponentLink2URL: http://documentation.renesas.com/eng/products/logic/rej03d0283_hd74bc373a.pdf; ComponentLink3Description: Packaging Specification; ComponentLink3URL: http://sg.renesas.com/media/products/common_info/package/pdf/ic/code/prsp0020dd_b.pdf
footprint PRSP0020DD-B_N (SOP, 20-Leads, Body 12.6x5.3mm, Pitch 1.27mm, IPC Medium Density)
footprint PRSP0020DD-B_L (SOP, 20-Leads, Body 12.6x5.3mm, Pitch 1.27mm, IPC High Density)
footprint PRSP0020DD-B_M (SOP, 20-Leads, Body 12.6x5.3mm, Pitch 1.27mm, IPC Low Density)
pins: 1 ~{G} (in), 2 1Q (hiz), 3 1D (in), 4 2D (in), 5 2Q (hiz), 6 3Q (hiz), 7 3D (in), 8 4D (in), 9 4Q (hiz), 10 GND (power), 11 LE (in), 12 5Q (hiz), 13 5D (in), 14 6D (in), 15 6Q (hiz), 16 7Q (hiz), 17 7D (in), 18 8D (in), 19 8Q (hiz), 20 VCC (power)

## HD74BC374AFP
designator U?
Octal D-Type Flip-Flops with 3-State Outputs; Published: 10-Feb-2010; DatasheetVersion: Rev.3.00, Jul-2004; PackageVersion: Sep-2005; PackageReference: PRSP0020DD-B; Publisher: Altium Limited; PackageDescription: 20-Pin Plastic Small Outline Package, 12.6 x 5.5 x 1.8 mm Body, 1.27 mm Pitch; Code_JEITA: P-SOP20-5.5x12.6-1.27; ComponentLink1Description: Manufacturer Link; ComponentLink1URL: http://sg.renesas.com/fmwk.jsp?cnt=hd74bc_root.jsp&fp=/products/standard_ic/general_purpose_logic/5v_standard_logic/hd74bc/; ComponentLink2Description: Datasheet; ComponentLink2URL: http://documentation.renesas.com/eng/products/logic/rej03d0284_hd74bc374a.pdf; ComponentLink3Description: Packaging Specification; ComponentLink3URL: http://sg.renesas.com/media/products/common_info/package/pdf/ic/code/prsp0020dd_b.pdf
footprint PRSP0020DD-B_N (SOP, 20-Leads, Body 12.6x5.3mm, Pitch 1.27mm, IPC Medium Density)
footprint PRSP0020DD-B_L (SOP, 20-Leads, Body 12.6x5.3mm, Pitch 1.27mm, IPC High Density)
footprint PRSP0020DD-B_M (SOP, 20-Leads, Body 12.6x5.3mm, Pitch 1.27mm, IPC Low Density)
pins: 1 ~{G} (in), 2 1Q (hiz), 3 1D (in), 4 2D (in), 5 2Q (hiz), 6 3Q (hiz), 7 3D (in), 8 4D (in), 9 4Q (hiz), 10 GND (power), 11 CK (in), 12 5Q (hiz), 13 5D (in), 14 6D (in), 15 6Q (hiz), 16 7Q (hiz), 17 7D (in), 18 8D (in), 19 8Q (hiz), 20 VCC (power)

## HD74BC541AFP
designator U?
Octal Buffers / Line Drivers with 3-State Outputs; Published: 10-Feb-2010; DatasheetVersion: Rev.2.00, Jul-2004; PackageVersion: Sep-2005; PackageReference: PRSP0020DD-B; Publisher: Altium Limited; PackageDescription: 20-Pin Plastic Small Outline Package, 12.6 x 5.5 x 1.8 mm Body, 1.27 mm Pitch; Code_JEITA: P-SOP20-5.5x12.6-1.27; ComponentLink1Description: Manufacturer Link; ComponentLink1URL: http://sg.renesas.com/fmwk.jsp?cnt=hd74bc_root.jsp&fp=/products/standard_ic/general_purpose_logic/5v_standard_logic/hd74bc/; ComponentLink2Description: Datasheet; ComponentLink2URL: http://documentation.renesas.com/eng/products/logic/rej03d0286_hd74bc541a.pdf; ComponentLink3Description: Packaging Specification; ComponentLink3URL: http://sg.renesas.com/media/products/common_info/package/pdf/ic/code/prsp0020dd_b.pdf
footprint PRSP0020DD-B_N (SOP, 20-Leads, Body 12.6x5.3mm, Pitch 1.27mm, IPC Medium Density)
footprint PRSP0020DD-B_L (SOP, 20-Leads, Body 12.6x5.3mm, Pitch 1.27mm, IPC High Density)
footprint PRSP0020DD-B_M (SOP, 20-Leads, Body 12.6x5.3mm, Pitch 1.27mm, IPC Low Density)
pins: 1 ~{G}1 (in), 2 A1 (in), 3 A2 (in), 4 A3 (in), 5 A4 (in), 6 A5 (in), 7 A6 (in), 8 A7 (in), 9 A8 (in), 10 GND (power), 11 Y8 (hiz), 12 Y7 (hiz), 13 Y6 (hiz), 14 Y5 (hiz), 15 Y4 (hiz), 16 Y3 (hiz), 17 Y2 (hiz), 18 Y1 (hiz), 19 ~{G}2 (in), 20 VCC (power)

## HD74BC623AFP
designator U?
Octal Bus Transceivers with 3-State Outputs; Published: 10-Feb-2010; DatasheetVersion: Rev.2.00, Jul-2004; PackageVersion: Sep-2005; PackageReference: PRSP0020DD-B; Publisher: Altium Limited; PackageDescription: 20-Pin Plastic Small Outline Package, 12.6 x 5.5 x 1.8 mm Body, 1.27 mm Pitch; Code_JEITA: P-SOP20-5.5x12.6-1.27; ComponentLink1Description: Manufacturer Link; ComponentLink1URL: http://sg.renesas.com/fmwk.jsp?cnt=hd74bc_root.jsp&fp=/products/standard_ic/general_purpose_logic/5v_standard_logic/hd74bc/; ComponentLink2Description: Datasheet; ComponentLink2URL: http://documentation.renesas.com/eng/products/logic/rej03d0289_hd74bc623a.pdf; ComponentLink3Description: Packaging Specification; ComponentLink3URL: http://sg.renesas.com/media/products/common_info/package/pdf/ic/code/prsp0020dd_b.pdf
footprint PRSP0020DD-B_N (SOP, 20-Leads, Body 12.6x5.3mm, Pitch 1.27mm, IPC Medium Density)
footprint PRSP0020DD-B_L (SOP, 20-Leads, Body 12.6x5.3mm, Pitch 1.27mm, IPC High Density)
footprint PRSP0020DD-B_M (SOP, 20-Leads, Body 12.6x5.3mm, Pitch 1.27mm, IPC Low Density)
pins: 1 GAB (in), 2 A1 (io), 3 A2 (io), 4 A3 (io), 5 A4 (io), 6 A5 (io), 7 A6 (io), 8 A7 (io), 9 A8 (io), 10 GND (power), 11 B8 (io), 12 B7 (io), 13 B6 (io), 14 B5 (io), 15 B4 (io), 16 B3 (io), 17 B2 (io), 18 B1 (io), 19 ~{GBA} (in), 20 VCC (power)

## HD74BC645AFP
designator U?
Octal Bus Transceivers with 3-State Outputs; Published: 10-Feb-2010; DatasheetVersion: Rev.2.00, Jul-2004; PackageVersion: Sep-2005; PackageReference: PRSP0020DD-B; Publisher: Altium Limited; PackageDescription: 20-Pin Plastic Small Outline Package, 12.6 x 5.5 x 1.8 mm Body, 1.27 mm Pitch; Code_JEITA: P-SOP20-5.5x12.6-1.27; ComponentLink1Description: Manufacturer Link; ComponentLink1URL: http://sg.renesas.com/fmwk.jsp?cnt=hd74bc_root.jsp&fp=/products/standard_ic/general_purpose_logic/5v_standard_logic/hd74bc/; ComponentLink2Description: Datasheet; ComponentLink2URL: http://documentation.renesas.com/eng/products/logic/rej03d0291_hd74bc645a.pdf; ComponentLink3Description: Packaging Specification; ComponentLink3URL: http://sg.renesas.com/media/products/common_info/package/pdf/ic/code/prsp0020dd_b.pdf
footprint PRSP0020DD-B_N (SOP, 20-Leads, Body 12.6x5.3mm, Pitch 1.27mm, IPC Medium Density)
footprint PRSP0020DD-B_L (SOP, 20-Leads, Body 12.6x5.3mm, Pitch 1.27mm, IPC High Density)
footprint PRSP0020DD-B_M (SOP, 20-Leads, Body 12.6x5.3mm, Pitch 1.27mm, IPC Low Density)
pins: 1 DIR (in), 2 A1 (io), 3 A2 (io), 4 A3 (io), 5 A4 (io), 6 A5 (io), 7 A6 (io), 8 A7 (io), 9 A8 (io), 10 GND (power), 11 B8 (io), 12 B7 (io), 13 B6 (io), 14 B5 (io), 15 B4 (io), 16 B3 (io), 17 B2 (io), 18 B1 (io), 19 ~{G} (in), 20 VCC (power)

## HD74HC00FP
designator U?
Quad 2-Input NAND Gates; Published: 10-Feb-2010; DatasheetVersion: Rev.2.00, Oct-2005; PackageVersion: Sep-2005; PackageReference: PRSP0014DF-B; Publisher: Altium Limited; PackageDescription: 14-Pin Plastic Small Outline Package, 10.06 x 5.5 mm Body, 1.27 mm Pitch; Code_JEITA: P-SOP14-5.5x10.06-1.27; ComponentLink1Description: Manufacturer Link; ComponentLink1URL: http://sg.renesas.com/fmwk.jsp?cnt=hd74hc_root.jsp&fp=/products/standard_ic/general_purpose_logic/5v_standard_logic/hd74hc/; ComponentLink2Description: Datasheet; ComponentLink2URL: http://documentation.renesas.com/eng/products/logic/rej03d0531_hd74hc00ds.pdf; ComponentLink3Description: Packaging Specification; ComponentLink3URL: http://sg.renesas.com/media/products/common_info/package/pdf/ic/code/prsp0014df_b.pdf
footprint PRSP0014DF-B_N (SOP, 14-Leads, Body 10.06x5.5mm, Pitch 1.27mm, IPC Medium Density)
footprint PRSP0014DF-B_L (SOP, 14-Leads, Body 10.06x5.5mm, Pitch 1.27mm, IPC High Density)
footprint PRSP0014DF-B_M (SOP, 14-Leads, Body 10.06x5.5mm, Pitch 1.27mm, IPC Low Density)
pins on every part: 7 GND (power) hidden, 14 VCC (power) hidden
part A pins: 1 1A (in), 2 1B (in), 3 1Y (out)
part B pins: 4 2A (in), 5 2B (in), 6 2Y (out)
part C pins: 8 3Y (out), 9 3A (in), 10 3B (in)
part D pins: 11 4Y (out), 12 4A (in), 13 4B (in)

## HD74HC00P
designator U?
Quad 2-Input NAND Gates; Published: 10-Feb-2010; DatasheetVersion: Rev.2.00, Oct-2005; PackageVersion: Sep-2005; PackageReference: PRDP0014AB-B; Publisher: Altium Limited; PackageDescription: 14-Pin Plastic DIP, 19.2 x 6.3 mm Body, 7.62 mm Row Spacing, Pitch 2.54 mm; Code_JEITA: P-DIP14-6.3x19.2-2.54; ComponentLink1Description: Manufacturer Link; ComponentLink1URL: http://sg.renesas.com/fmwk.jsp?cnt=hd74hc_root.jsp&fp=/products/standard_ic/general_purpose_logic/5v_standard_logic/hd74hc/; ComponentLink2Description: Datasheet; ComponentLink2URL: http://documentation.renesas.com/eng/products/logic/rej03d0531_hd74hc00ds.pdf; ComponentLink3Description: Packaging Specification; ComponentLink3URL: http://sg.renesas.com/media/products/common_info/package/pdf/ic/code/prdp0014ab_b.pdf
footprint PRDP0014AB-B (DIP, 14-Leads, Row Spacing 7.62mm, Pitch 2.54mm, Body 19.2x6.3mm)
pins on every part: 7 GND (power) hidden, 14 VCC (power) hidden
part A pins: 1 1A (in), 2 1B (in), 3 1Y (out)
part B pins: 4 2A (in), 5 2B (in), 6 2Y (out)
part C pins: 8 3Y (out), 9 3A (in), 10 3B (in)
part D pins: 11 4Y (out), 12 4A (in), 13 4B (in)

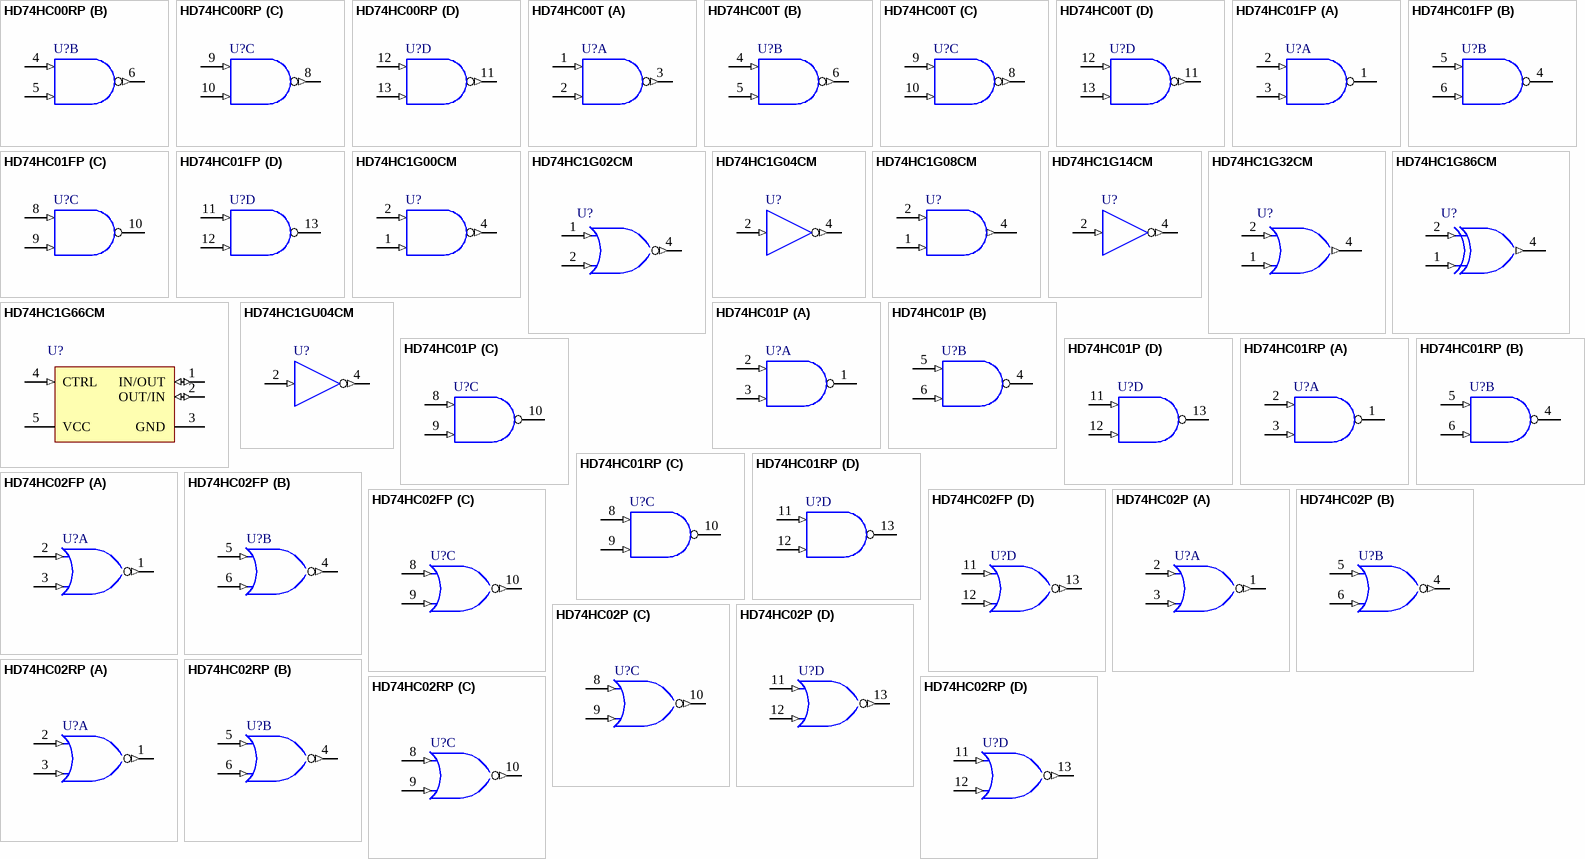
[diagram p8: symbols HD74HC00RP to HD74HC02RP]

## HD74HC00RP
designator U?
Quad 2-Input NAND Gates; Published: 10-Feb-2010; DatasheetVersion: Rev.2.00, Oct-2005; PackageVersion: Sep-2005; PackageReference: PRSP0014DE-A; Publisher: Altium Limited; PackageDescription: 14-Pin Plastic Small Outline Integrated Circuit 8.65 x 3.95 mm Body, 1.27 mm Pitch; Code_JEITA: P-SOP14-3.95x8.65-1.27; ComponentLink1Description: Manufacturer Link; ComponentLink1URL: http://sg.renesas.com/fmwk.jsp?cnt=hd74hc_root.jsp&fp=/products/standard_ic/general_purpose_logic/5v_standard_logic/hd74hc/; ComponentLink2Description: Datasheet; ComponentLink2URL: http://documentation.renesas.com/eng/products/logic/rej03d0531_hd74hc00ds.pdf; ComponentLink3Description: Packaging Specification; ComponentLink3URL: http://sg.renesas.com/media/products/common_info/package/pdf/ic/code/prsp0014de_a.pdf
footprint PRSP0014DE-A_N (SOIC, 14-Leads, Body 8.65x3.95mm, Pitch 1.27mm, IPC Medium Density)
footprint PRSP0014DE-A_L (SOIC, 14-Leads, Body 8.65x3.95mm, Pitch 1.27mm, IPC High Density)
footprint PRSP0014DE-A_M (SOIC, 14-Leads, Body 8.65x3.95mm, Pitch 1.27mm, IPC Low Density)
pins on every part: 7 GND (power) hidden, 14 VCC (power) hidden
part A pins: 1 1A (in), 2 1B (in), 3 1Y (out)
part B pins: 4 2A (in), 5 2B (in), 6 2Y (out)
part C pins: 8 3Y (out), 9 3A (in), 10 3B (in)
part D pins: 11 4Y (out), 12 4A (in), 13 4B (in)

## HD74HC00T
designator U?
Quad 2-Input NAND Gates; Published: 10-Feb-2010; DatasheetVersion: Rev.2.00, Oct-2005; PackageVersion: Sep-2005; PackageReference: PTSP0014JA-B; Publisher: Altium Limited; PackageDescription: 14-Pin Plastic Thin Small Outline Package 0.65 mm Pitch; Code_JEITA: P-TSSOP14-4.4x5-0.65; ComponentLink1Description: Manufacturer Link; ComponentLink1URL: http://sg.renesas.com/fmwk.jsp?cnt=hd74hc_root.jsp&fp=/products/standard_ic/general_purpose_logic/5v_standard_logic/hd74hc/; ComponentLink2Description: Datasheet; ComponentLink2URL: http://documentation.renesas.com/eng/products/logic/rej03d0531_hd74hc00ds.pdf; ComponentLink3Description: Packaging Specification; ComponentLink3URL: http://sg.renesas.com/media/products/common_info/package/pdf/ic/code/ptsp0014ja_b.pdf
footprint PTSP0014JA-B_N (TSOP, 14-Leads, Body 5x4.4mm, Pitch 0.65mm, IPC Medium Density)
footprint PTSP0014JA-B_L (TSOP, 14-Leads, Body 5x4.4mm, Pitch 0.65mm, IPC High Density)
footprint PTSP0014JA-B_M (TSOP, 14-Leads, Body 5x4.4mm, Pitch 0.65mm, IPC Low Density)
pins on every part: 7 GND (power) hidden, 14 VCC (power) hidden
part A pins: 1 1A (in), 2 1B (in), 3 1Y (out)
part B pins: 4 2A (in), 5 2B (in), 6 2Y (out)
part C pins: 8 3Y (out), 9 3A (in), 10 3B (in)
part D pins: 11 4Y (out), 12 4A (in), 13 4B (in)

## HD74HC01FP
designator U?
Quad 2-Input NAND Gates with Open Drain Outputs; Published: 10-Feb-2010; DatasheetVersion: Rev.2.00, Oct-2005; PackageVersion: Sep-2005; PackageReference: PRSP0014DF-B; Publisher: Altium Limited; PackageDescription: 14-Pin Plastic Small Outline Package, 10.06 x 5.5 mm Body, 1.27 mm Pitch; Code_JEITA: P-SOP14-5.5x10.06-1.27; ComponentLink1Description: Manufacturer Link; ComponentLink1URL: http://sg.renesas.com/fmwk.jsp?cnt=hd74hc_root.jsp&fp=/products/standard_ic/general_purpose_logic/5v_standard_logic/hd74hc/; ComponentLink2Description: Datasheet; ComponentLink2URL: http://documentation.renesas.com/eng/products/logic/rej03d0532_hd74hc01ds.pdf; ComponentLink3Description: Packaging Specification; ComponentLink3URL: http://sg.renesas.com/media/products/common_info/package/pdf/ic/code/prsp0014df_b.pdf
footprint PRSP0014DF-B_N (SOP, 14-Leads, Body 10.06x5.5mm, Pitch 1.27mm, IPC Medium Density)
footprint PRSP0014DF-B_L (SOP, 14-Leads, Body 10.06x5.5mm, Pitch 1.27mm, IPC High Density)
footprint PRSP0014DF-B_M (SOP, 14-Leads, Body 10.06x5.5mm, Pitch 1.27mm, IPC Low Density)
pins on every part: 7 GND (power) hidden, 14 VCC (power) hidden
part A pins: 1 1Y (oc), 2 1A (in), 3 1B (in)
part B pins: 4 2Y (oc), 5 2A (in), 6 2B (in)
part C pins: 8 3A (in), 9 3B (in), 10 3Y (oc)
part D pins: 11 4A (in), 12 4B (in), 13 4Y (oc)

## HD74HC1G00CM
designator U?
2-Input NAND Gate; Published: 10-Feb-2010; DatasheetVersion: Rev.5.00, Jan-2004; PackageVersion: Jan-2005; PackageReference: PTSP0005ZC-A; Publisher: Altium Limited; PackageDescription: 5-Pin Plastic SOT-353 Package 0.65 mm Pitch, 2.1 mm Lead Span; Code_JEITA: SC-88A; Code_IPC: SOT353-5; ComponentLink1Description: Manufacturer Link; ComponentLink1URL: http://sg.renesas.com/fmwk.jsp?cnt=unilogic_hc_root.jsp&fp=/products/standard_ic/general_purpose_logic/uni_logic/unilogic_hc/; ComponentLink2Description: Datasheet; ComponentLink2URL: http://documentation.renesas.com/eng/products/logic/rej03d0182_hd74hc1g00.pdf; ComponentLink3Description: Packaging Specification; ComponentLink3URL: http://sg.renesas.com/media/products/common_info/package/pdf/ic/code/ptsp0005zc_a.pdf
footprint PTSP0005ZC-A_N (SOT353, 5-Leads, Body 2x1.3mm, Pitch 0.65mm, Lead Span 2.1mm, IPC Medium Density)
footprint PTSP0005ZC-A_L (SOT353, 5-Leads, Body 2x1.3mm, Pitch 0.65mm, Lead Span 2.1mm, IPC High Density)
footprint PTSP0005ZC-A_M (SOT353, 5-Leads, Body 2x1.3mm, Pitch 0.65mm, Lead Span 2.1mm, IPC Low Density)
pins: 1 IN B (in), 2 IN A (in), 3 GND (power) hidden, 4 OUT Y (out), 5 VCC (power) hidden

## HD74HC1G02CM
designator U?
2-Input NOR Gate; Published: 10-Feb-2010; DatasheetVersion: Rev.5.00, Jan-2004; PackageVersion: Jan-2005; PackageReference: PTSP0005ZC-A; Publisher: Altium Limited; PackageDescription: 5-Pin Plastic SOT-353 Package 0.65 mm Pitch, 2.1 mm Lead Span; Code_JEITA: SC-88A; Code_IPC: SOT353-5; ComponentLink1Description: Manufacturer Link; ComponentLink1URL: http://sg.renesas.com/fmwk.jsp?cnt=unilogic_hc_root.jsp&fp=/products/standard_ic/general_purpose_logic/uni_logic/unilogic_hc/; ComponentLink2Description: Datasheet; ComponentLink2URL: http://documentation.renesas.com/eng/products/logic/rej03d0183_hd74hc1g02.pdf; ComponentLink3Description: Packaging Specification; ComponentLink3URL: http://sg.renesas.com/media/products/common_info/package/pdf/ic/code/ptsp0005zc_a.pdf
footprint PTSP0005ZC-A_N (SOT353, 5-Leads, Body 2x1.3mm, Pitch 0.65mm, Lead Span 2.1mm, IPC Medium Density)
footprint PTSP0005ZC-A_L (SOT353, 5-Leads, Body 2x1.3mm, Pitch 0.65mm, Lead Span 2.1mm, IPC High Density)
footprint PTSP0005ZC-A_M (SOT353, 5-Leads, Body 2x1.3mm, Pitch 0.65mm, Lead Span 2.1mm, IPC Low Density)
pins: 1 IN B (in), 2 IN A (in), 3 GND (power) hidden, 4 OUT Y (out), 5 VCC (power) hidden

## HD74HC1G04CM
designator U?
Inverter; Published: 10-Feb-2010; DatasheetVersion: Rev.5.00, Jan-2004; PackageVersion: Jan-2005; PackageReference: PTSP0005ZC-A; Publisher: Altium Limited; PackageDescription: 5-Pin Plastic SOT-353 Package 0.65 mm Pitch, 2.1 mm Lead Span; Code_JEITA: SC-88A; Code_IPC: SOT353-5; ComponentLink1Description: Manufacturer Link; ComponentLink1URL: http://sg.renesas.com/fmwk.jsp?cnt=unilogic_hc_root.jsp&fp=/products/standard_ic/general_purpose_logic/uni_logic/unilogic_hc/; ComponentLink2Description: Datasheet; ComponentLink2URL: http://documentation.renesas.com/eng/products/logic/rej03d0184_hd74hc1g04.pdf; ComponentLink3Description: Packaging Specification; ComponentLink3URL: http://sg.renesas.com/media/products/common_info/package/pdf/ic/code/ptsp0005zc_a.pdf
footprint PTSP0005ZC-A_N (SOT353, 5-Leads, Body 2x1.3mm, Pitch 0.65mm, Lead Span 2.1mm, IPC Medium Density)
footprint PTSP0005ZC-A_L (SOT353, 5-Leads, Body 2x1.3mm, Pitch 0.65mm, Lead Span 2.1mm, IPC High Density)
footprint PTSP0005ZC-A_M (SOT353, 5-Leads, Body 2x1.3mm, Pitch 0.65mm, Lead Span 2.1mm, IPC Low Density)
pins: 1 NC hidden, 2 IN A (in), 3 GND (power) hidden, 4 OUT ~{Y} (out), 5 VCC (power) hidden

## HD74HC1G08CM
designator U?
2-Input AND Gate; Published: 10-Feb-2010; DatasheetVersion: Rev.5.00, Jan-2004; PackageVersion: Jan-2005; PackageReference: PTSP0005ZC-A; Publisher: Altium Limited; PackageDescription: 5-Pin Plastic SOT-353 Package 0.65 mm Pitch, 2.1 mm Lead Span; Code_JEITA: SC-88A; Code_IPC: SOT353-5; ComponentLink1Description: Manufacturer Link; ComponentLink1URL: http://sg.renesas.com/fmwk.jsp?cnt=unilogic_hc_root.jsp&fp=/products/standard_ic/general_purpose_logic/uni_logic/unilogic_hc/; ComponentLink2Description: Datasheet; ComponentLink2URL: http://documentation.renesas.com/eng/products/logic/rej03d0185_hd74hc1g08.pdf; ComponentLink3Description: Packaging Specification; ComponentLink3URL: http://sg.renesas.com/media/products/common_info/package/pdf/ic/code/ptsp0005zc_a.pdf
footprint PTSP0005ZC-A_N (SOT353, 5-Leads, Body 2x1.3mm, Pitch 0.65mm, Lead Span 2.1mm, IPC Medium Density)
footprint PTSP0005ZC-A_L (SOT353, 5-Leads, Body 2x1.3mm, Pitch 0.65mm, Lead Span 2.1mm, IPC High Density)
footprint PTSP0005ZC-A_M (SOT353, 5-Leads, Body 2x1.3mm, Pitch 0.65mm, Lead Span 2.1mm, IPC Low Density)
pins: 1 IN B (in), 2 IN A (in), 3 GND (power) hidden, 4 OUT Y (out), 5 VCC (power) hidden

## HD74HC1G14CM
designator U?
Schmitt Trigger Inverters; Published: 10-Feb-2010; DatasheetVersion: Rev.6.00, Jan-2004; PackageVersion: Jan-2005; PackageReference: PTSP0005ZC-A; Publisher: Altium Limited; PackageDescription: 5-Pin Plastic SOT-353 Package 0.65 mm Pitch, 2.1 mm Lead Span; Code_JEITA: SC-88A; Code_IPC: SOT353-5; ComponentLink1Description: Manufacturer Link; ComponentLink1URL: http://sg.renesas.com/fmwk.jsp?cnt=unilogic_hc_root.jsp&fp=/products/standard_ic/general_purpose_logic/uni_logic/unilogic_hc/; ComponentLink2Description: Datasheet; ComponentLink2URL: http://documentation.renesas.com/eng/products/logic/rej03d0186_hd74hc1g14.pdf; ComponentLink3Description: Packaging Specification; ComponentLink3URL: http://sg.renesas.com/media/products/common_info/package/pdf/ic/code/ptsp0005zc_a.pdf
footprint PTSP0005ZC-A_N (SOT353, 5-Leads, Body 2x1.3mm, Pitch 0.65mm, Lead Span 2.1mm, IPC Medium Density)
footprint PTSP0005ZC-A_L (SOT353, 5-Leads, Body 2x1.3mm, Pitch 0.65mm, Lead Span 2.1mm, IPC High Density)
footprint PTSP0005ZC-A_M (SOT353, 5-Leads, Body 2x1.3mm, Pitch 0.65mm, Lead Span 2.1mm, IPC Low Density)
pins: 1 NC hidden, 2 IN A (in), 3 GND (power) hidden, 4 OUT ~{Y} (out), 5 VCC (power) hidden

## HD74HC1G32CM
designator U?
2-Input OR Gate; Published: 10-Feb-2010; DatasheetVersion: Rev.5.00, Jan-2004; PackageVersion: Jan-2005; PackageReference: PTSP0005ZC-A; Publisher: Altium Limited; PackageDescription: 5-Pin Plastic SOT-353 Package 0.65 mm Pitch, 2.1 mm Lead Span; Code_JEITA: SC-88A; Code_IPC: SOT353-5; ComponentLink1Description: Manufacturer Link; ComponentLink1URL: http://sg.renesas.com/fmwk.jsp?cnt=unilogic_hc_root.jsp&fp=/products/standard_ic/general_purpose_logic/uni_logic/unilogic_hc/; ComponentLink2Description: Datasheet; ComponentLink2URL: http://documentation.renesas.com/eng/products/logic/rej03d0187_hd74hc1g32.pdf; ComponentLink3Description: Packaging Specification; ComponentLink3URL: http://sg.renesas.com/media/products/common_info/package/pdf/ic/code/ptsp0005zc_a.pdf
footprint PTSP0005ZC-A_N (SOT353, 5-Leads, Body 2x1.3mm, Pitch 0.65mm, Lead Span 2.1mm, IPC Medium Density)
footprint PTSP0005ZC-A_L (SOT353, 5-Leads, Body 2x1.3mm, Pitch 0.65mm, Lead Span 2.1mm, IPC High Density)
footprint PTSP0005ZC-A_M (SOT353, 5-Leads, Body 2x1.3mm, Pitch 0.65mm, Lead Span 2.1mm, IPC Low Density)
pins: 1 IN B (in), 2 IN A (in), 3 GND (power) hidden, 4 OUT Y (out), 5 VCC (power) hidden

## HD74HC1G66CM
designator U?
Analog Switch; Published: 10-Feb-2010; DatasheetVersion: Rev.8.00, Jan-2004; PackageVersion: Jan-2005; PackageReference: PTSP0005ZC-A; Publisher: Altium Limited; PackageDescription: 5-Pin Plastic SOT-353 Package 0.65 mm Pitch, 2.1 mm Lead Span; Code_JEITA: SC-88A; Code_IPC: SOT353-5; ComponentLink1Description: Manufacturer Link; ComponentLink1URL: http://sg.renesas.com/fmwk.jsp?cnt=unilogic_hc_root.jsp&fp=/products/standard_ic/general_purpose_logic/uni_logic/unilogic_hc/; ComponentLink2Description: Datasheet; ComponentLink2URL: http://documentation.renesas.com/eng/products/logic/rej03d0188_hd74hc1g66.pdf; ComponentLink3Description: Packaging Specification; ComponentLink3URL: http://sg.renesas.com/media/products/common_info/package/pdf/ic/code/ptsp0005zc_a.pdf
footprint PTSP0005ZC-A_N (SOT353, 5-Leads, Body 2x1.3mm, Pitch 0.65mm, Lead Span 2.1mm, IPC Medium Density)
footprint PTSP0005ZC-A_L (SOT353, 5-Leads, Body 2x1.3mm, Pitch 0.65mm, Lead Span 2.1mm, IPC High Density)
footprint PTSP0005ZC-A_M (SOT353, 5-Leads, Body 2x1.3mm, Pitch 0.65mm, Lead Span 2.1mm, IPC Low Density)
pins: 1 IN/OUT (io), 2 OUT/IN (io), 3 GND (power), 4 CTRL (in), 5 VCC (power)